# EAGLE library part ANALOG-DEVICES2_ADR3412 (library main)
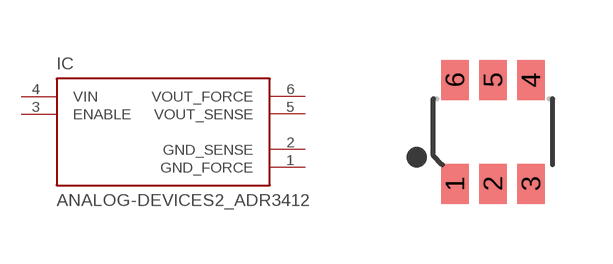
[diagram p2: symbol with the pads of ANALOG-DEVICES2_SOT-23-6; footprint ANALOG-DEVICES2_SOT-23-6]

Designator prefix IC

## ANALOG-DEVICES2_ADR3412  [ANALOG-DEVICES2_SOT-23-6]
1  GND_FORCE  pwr
2  GND_SENSE  pwr
3  ENABLE  in
4  VIN  pwr
5  VOUT_SENSE  pwr
6  VOUT_FORCE  pwr

## Footprint ANALOG-DEVICES2_SOT-23-6 (pad centres in mm)
smd 0.69 x 1: 1 -1.005,-1.065; 2 -0.055,-1.065; 3 0.895,-1.065; 4 0.895,1.535; 5 -0.055,1.535; 6 -1.005,1.535